# Altium schematic symbol library Schlib.SchLib: 138 symbols (part 2 of 4)
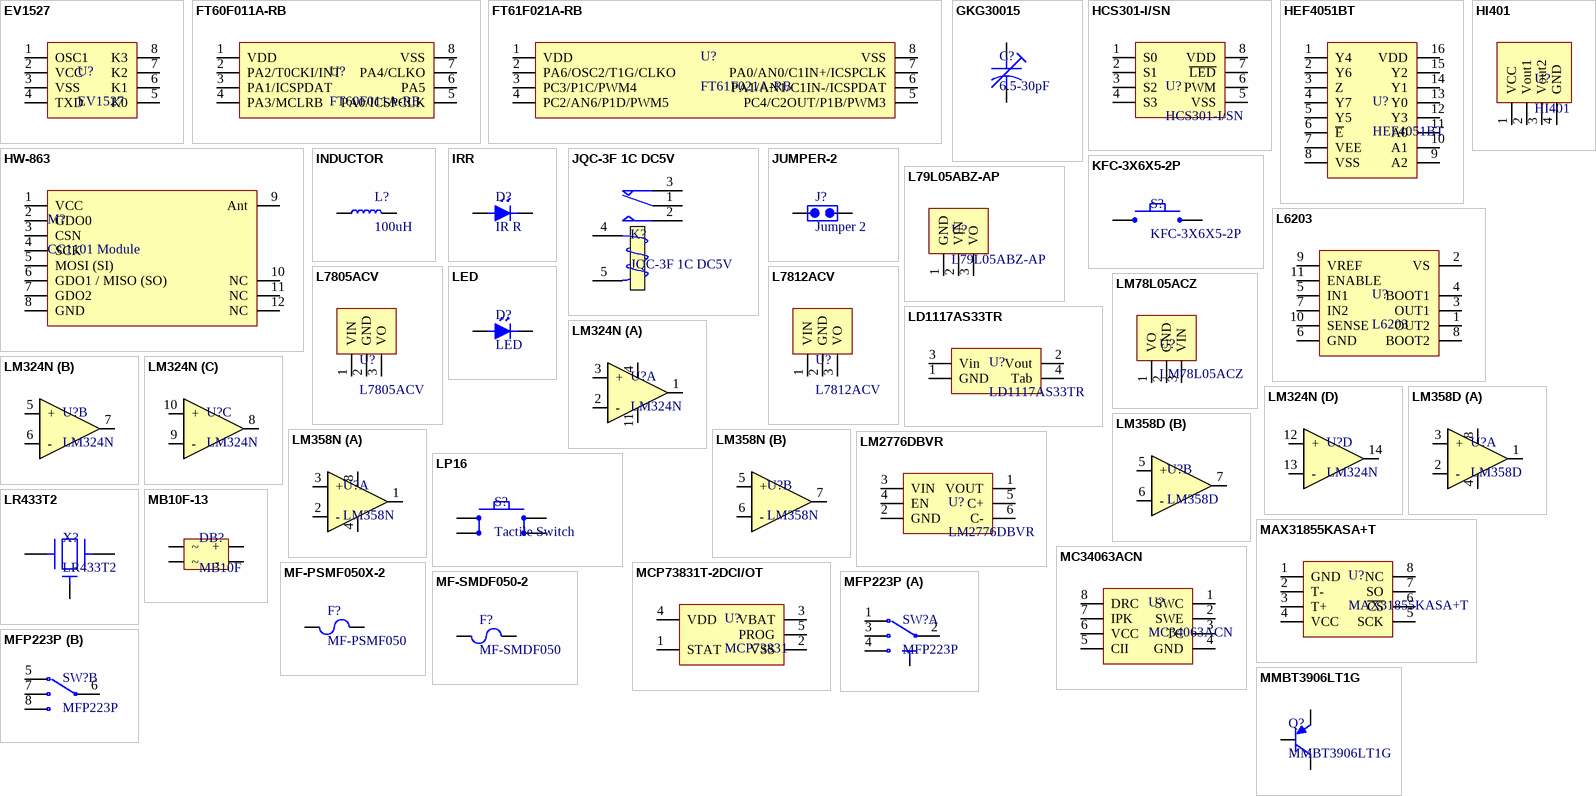
[diagram p4: symbols EV1527 to MMBT3906LT1G]

## INDUCTOR
designator L?, comment 100uH
INDUCTOR
footprint L-0805
footprint L-1206
footprint L-DIP_3x7mm_pin9mm
footprint L-DIP_8X11MM_Pin200Mil
footprint L-DIP_3x7mm_STAND
pins: 1, 2

## IRR
designator D?, comment IR R
IR Receiver
footprint LED-3MM
footprint LED-2835
footprint LED-0805
footprint LED-UV-1W
footprint LED-5MM-BLUE
footprint LED-5MM-RED
pins: A, K

## JQC-3F 1C DC5V
designator K?
Relay Milon 5V 1Contact T73
footprint JQC-3F(T73)
pins: 1 COM, 2 NO, 3 NC, 4 T1, 5 T2

## JUMPER-2
designator J?, comment Jumper 2
2PIN DIP JAMPER 2.56mm
footprint JAMPER-2-DIP_2.56mm
pins: 1, 2

## KFC-3X6X5-2P
designator S?
SMD 3x6x5 mm , Switches , Push Button; ComponentLink1Description: more info; ComponentLink1URL: https://www.javanelec.com/Shops/ProductDetail/1875
footprint KFC-3X6X5-2P-SMD
pins: 1, 2

## L79L05ABZ-AP
designator U?
IC REG LINEAR -5V 100MA TO92-3; Manufacturer: STMicroelectronics; Number of Outputs: 1; Max Input Voltage: -30V; Polarity: Negative; Quiescent Current: 6mA; Output Type: Fixed; Dropout Voltage: 1.7V; Min Input Voltage: -7V; Power Supply Rejection Ratio (PSRR): 49dB; Supplier 1: Digi-Key; Manufacturer Part Number: L79L05ABZ-AP; RoHS: Yes; Category: Voltage Regulators - Linear; Stock 1: 227; Pricing 1: 1=0/44000, 10=0/37600, 25=0/35080, 100=0/28080, 250=0/26072, 500=0/22060, 1000=0/17047 (USD); Mount: Through Hole; Case/Package: TO-92; Number of Pins: 3; Min Operating Temperature: -40°C; Max Operating Temperature: 125°C; Max Output Current: 100mA; Output Voltage: -5V; Packaging: Ammo Pack; Output Current: 100mA; Package Quantity: 1; Number of Regulators: 1; Min Output Voltage: -5V; Series: -; Length: 4.95mm; Width: 3.94mm; Height: 4.95mm; Radiation Hardening: No; Lead Free: Lead Free; RoHS Compliant: Yes; ComponentLink1URL: https://datasheet.ciiva.com/15111/getdatasheetpartid-98563-15111708.pdf?src-supplier=Verical; ComponentLink1Description: https://datasheet.ciiva.com/15111/getdatasheetpartid-98563-15111708.pdf?src-supplier=Verical; ComponentLink2URL: https://datasheet.ciiva.com/4882/cd00000539-4882167.pdf?src-supplier=Mouser; ComponentLink2Description: https://datasheet.ciiva.com/4882/cd00000539-4882167.pdf?src-supplier=Mouser; ComponentLink3URL: https://datasheet.ciiva.com/2041/cd00000539-2041917.pdf?src-supplier=Digi-Key; ComponentLink3Description: https://datasheet.ciiva.com/2041/cd00000539-2041917.pdf?src-supplier=Digi-Key; ComponentLink4URL: https://datasheet.ciiva.com/2041/cd00000539-2041918.pdf?src-supplier=Digi-Key; ComponentLink4Description: https://datasheet.ciiva.com/2041/cd00000539-2041918.pdf?src-supplier=Digi-Key; Supplier Part Number 1: 497-7297-1-ND
footprint TO-92
pins: 1 GND, 2 VIN, 3 VO

## L6203
designator U?
DMOS Full Bridge Motor Driver 36V 11-Pin(11+Tab) MULTIWATT V Tube; Manufacturer: STMicroelectronics; Number of Channels: 2; Output Current: 5A; Output Voltage: 60V; Min Supply Voltage: 12V; Max Supply Voltage: 48V; Output Current per Channel: 4A; On-State Resistance: 300mR; Operating Supply Current: 15mA; Max Collector Current: 10A; Rise Time: 200ns; Release Time: 400ns; Motor Type: Brushed; Turn-Off Delay Time: 300ns; Supplier 1: Digi-Key; Manufacturer Part Number: L6203; RoHS: Yes; Category: Motor Drivers; Pricing 1: 1=9/70000, 10=8/76400, 25=8/35640, 100=7/25590, 250=6/92976, 500=6/72980 (USD); Mount: Through Hole; Number of Pins: 11; Weight: 0.01lb; Min Operating Temperature: -40°C; Max Operating Temperature: 150°C; Packaging: Rail/Tube; Package Quantity: 25; Operating Supply Voltage: 36V; Number of Outputs: 2; Max Output Current: 5A; Collector Emitter Voltage (VCEO): 48V; Turn-On Delay Time: 400ns; Fall Time: 200ns; Length: 19.6mm; Width: 5mm; Height: 10.7mm; Radiation Hardening: No; RoHS Compliant: Yes; Lead Free: Lead Free; REACH SVHC: No SVHC; ComponentLink1URL: https://datasheet.ciiva.com/19456/288104-19456703.pdf?src-supplier=Jameco; ComponentLink1Description: https://datasheet.ciiva.com/19456/288104-19456703.pdf?src-supplier=Jameco; ComponentLink2URL: https://datasheet.ciiva.com/15109/getdatasheetpartid-82875-15109348.pdf?src-supplier=Verical; ComponentLink2Description: https://datasheet.ciiva.com/15109/getdatasheetpartid-82875-15109348.pdf?src-supplier=Verical; ComponentLink3URL: https://datasheet.ciiva.com/26880/l6203-26880161.pdf?src-supplier=IIIC; ComponentLink3Description: https://datasheet.ciiva.com/26880/l6203-26880161.pdf?src-supplier=IIIC; ComponentLink4URL: https://datasheet.ciiva.com/1500/1696819-1500718.pdf?src-supplier=Element14; ComponentLink4Description: https://datasheet.ciiva.com/1500/1696819-1500718.pdf?src-supplier=Element14; ComponentLink5URL: https://datasheet.ciiva.com/14121/l6201-3-eng-tds-14121340.pdf?src-supplier=Distrelec; ComponentLink5Description: https://datasheet.ciiva.com/14121/l6201-3-eng-tds-14121340.pdf?src-supplier=Distrelec; ComponentLink6URL: https://datasheet.ciiva.com/1955/cd00000089-1955614.pdf?src-supplier=Digi-Key; ComponentLink6Description: https://datasheet.ciiva.com/1955/cd00000089-1955614.pdf?src-supplier=Digi-Key; ComponentLink7URL: https://datasheet.ciiva.com/4895/cd00000089-4895903.pdf?src-supplier=Mouser; ComponentLink7Description: https://datasheet.ciiva.com/4895/cd00000089-4895903.pdf?src-supplier=Mouser; ComponentLink8URL: https://datasheet.ciiva.com/1608/1696819-1608167.pdf?src-supplier=Newark; ComponentLink8Description: https://datasheet.ciiva.com/1608/1696819-1608167.pdf?src-supplier=Newark; ComponentLink9URL: https://datasheet.ciiva.com/26347/82-2062e-26347878.pdf?src-supplier=Rapid+Electronics; ComponentLink9Description: https://datasheet.ciiva.com/26347/82-2062e-26347878.pdf?src-supplier=Rapid+Electronics; ComponentLink10URL: https://datasheet.ciiva.com/3228/cd00000089-3228665.pdf?src-supplier=Avnet; ComponentLink10Description: https://datasheet.ciiva.com/3228/cd00000089-3228665.pdf?src-supplier=Avnet; ComponentLink11URL: https://datasheet.ciiva.com/16204/cd00000089-16204895.pdf?src-supplier=Future+Electronics; ComponentLink11Description: https://datasheet.ciiva.com/16204/cd00000089-16204895.pdf?src-supplier=Future+Electronics; Supplier Part Number 1: 497-1421-5-ND
footprint MULTIWATT11
pins: 1 OUT2, 2 VS, 3 OUT1, 4 BOOT1, 5 IN1, 6 GND, 7 IN2, 8 BOOT2, 9 VREF, 10 SENSE, 11 ENABLE

## L7805ACV
designator U?
L7805 Series 1.5 A 5 V Three Terminal Voltage Regulator - TO-220; Manufacturer: STMicroelectronics; Dropout Voltage: 2V; Number of Outputs: 1; Output Current: 1.5A; Max Input Voltage: 35V; Min Input Voltage: 7V; Max Output Current: 1A; Output Voltage: 5V; Polarity: Positive; Quiescent Current: 6mA; Min Output Voltage: 4.9V; Power Supply Rejection Ratio (PSRR): 68dB; Output Type: Fixed; Accuracy: 2%; Tolerance: 4%; Supplier 1: Digi-Key; Manufacturer Part Number: L7805ACV; RoHS: Yes; Category: Voltage Regulators - Linear; Stock 1: 4280; Pricing 1: 1=0/85000, 10=0/74600, 25=0/70120, 100=0/57230, 250=0/53156, 500=0/45240, 1000=0/37345 (USD); Mount: Through Hole; Case/Package: TO; Number of Pins: 3; Weight: 0.01lb; Contact Plating: Tin; Min Operating Temperature: 0°C; Max Operating Temperature: 125°C; Package Quantity: 50; Packaging: Rail/Tube; Number of Regulators: 1; Series: -; Nominal Output Voltage: 5V; Output Voltage Accuracy: 2%; Length: 10.4mm; Width: 4.6mm; Height: 9.15mm; Radiation Hardening: No; Lead Free: Lead Free; RoHS Compliant: Yes; REACH SVHC: No SVHC; ComponentLink1URL: https://datasheet.ciiva.com/15110/getdatasheetpartid-40923-15110968.pdf?src-supplier=Verical; ComponentLink1Description: https://datasheet.ciiva.com/15110/getdatasheetpartid-40923-15110968.pdf?src-supplier=Verical; ComponentLink2URL: https://datasheet.ciiva.com/19480/924570-19480540.pdf?src-supplier=Jameco; ComponentLink2Description: https://datasheet.ciiva.com/19480/924570-19480540.pdf?src-supplier=Jameco; ComponentLink3URL: https://datasheet.ciiva.com/1511/1805459-1511909.pdf?src-supplier=Element14; ComponentLink3Description: https://datasheet.ciiva.com/1511/1805459-1511909.pdf?src-supplier=Element14; ComponentLink4URL: https://datasheet.ciiva.com/2043/cd00000444-2043990.pdf?src-supplier=Digi-Key; ComponentLink4Description: https://datasheet.ciiva.com/2043/cd00000444-2043990.pdf?src-supplier=Digi-Key; ComponentLink5URL: https://datasheet.ciiva.com/14149/tdl78xxab-l78xxac-e-14149771.pdf?src-supplier=Distrelec; ComponentLink5Description: https://datasheet.ciiva.com/14149/tdl78xxab-l78xxac-e-14149771.pdf?src-supplier=Distrelec; ComponentLink6URL: https://datasheet.ciiva.com/16458/cd00000444-16458157.pdf?src-supplier=Future+Electronics; ComponentLink6Description: https://datasheet.ciiva.com/16458/cd00000444-16458157.pdf?src-supplier=Future+Electronics; ComponentLink7URL: https://datasheet.ciiva.com/4881/cd00000444-4881855.pdf?src-supplier=Mouser; ComponentLink7Description: https://datasheet.ciiva.com/4881/cd00000444-4881855.pdf?src-supplier=Mouser; ComponentLink8URL: https://datasheet.ciiva.com/41440/001184958-da-01-en-ic-reg-ldo-5v-1-5a-l7805acv-to-220-3-stm-41440071.pdf?src-supplier=Conrad; ComponentLink8Description: https://datasheet.ciiva.com/41440/001184958-da-01-en-ic-reg-ldo-5v-1-5a-l7805acv-to-220-3-stm-41440071.pdf?src-supplier=Conrad; Supplier Part Number 1: 497-1441-5-ND
footprint TO-220
pins: 1 VIN, 2 GND, 3 VO

## L7812ACV
designator U?
Standard Regulator Pos 12V 1.5A 3-Pin(3+Tab) TO-220AB Tube / IC REG LDO 12V 1.5A TO220AB; Manufacturer: STMicroelectronics; Polarity: Positive; Max Input Voltage: 35V; Min Input Voltage: 14V; Number of Outputs: 1; Dropout Voltage: 2V; Output Type: Fixed; Quiescent Current: 6mA; Power Supply Rejection Ratio (PSRR): 60dB; Accuracy: 2%; Supplier 1: Arrow Electronics; Manufacturer Part Number: L7812ACV; RoHS: Yes; Category: Voltage Regulators - Linear; Stock 1: 77; Pricing 1: 1=0/57740, 10=0/48910, 100=0/39210, 500=0/35690, 1000=0/30500, 2500=0/29220 (USD); Mount: Through Hole; Case/Package: TO; Number of Pins: 3; Contact Plating: Tin,Matte; Weight: 0.01lb; Min Operating Temperature: 0°C; Max Operating Temperature: 125°C; Packaging: Rail/Tube; Package Quantity: 50; Output Voltage: 12V; Output Current: 1.5A; Max Output Current: 1.5A; Nominal Output Voltage: 12V; Number of Regulators: 1; Min Output Voltage: 12V; Series: -; Output Voltage Accuracy: 2%; Tolerance: 2%; Length: 10.4mm; Width: 4.6mm; Height: 15.75mm; Radiation Hardening: No; REACH SVHC: No SVHC; Lead Free: Lead Free; RoHS Compliant: Yes; ComponentLink1URL: https://datasheet.ciiva.com/19480/1389791-19480677.pdf?src-supplier=Jameco; ComponentLink1Description: https://datasheet.ciiva.com/19480/1389791-19480677.pdf?src-supplier=Jameco; ComponentLink2URL: https://datasheet.ciiva.com/14111/tdl78xxab-l78xxac-e-14111398.pdf?src-supplier=Distrelec; ComponentLink2Description: https://datasheet.ciiva.com/14111/tdl78xxab-l78xxac-e-14111398.pdf?src-supplier=Distrelec; ComponentLink3URL: https://datasheet.ciiva.com/26904/l7812acv-26904439.pdf?src-supplier=IIIC; ComponentLink3Description: https://datasheet.ciiva.com/26904/l7812acv-26904439.pdf?src-supplier=IIIC; ComponentLink4URL: https://datasheet.ciiva.com/1511/1805459-1511924.pdf?src-supplier=Element14; ComponentLink4Description: https://datasheet.ciiva.com/1511/1805459-1511924.pdf?src-supplier=Element14; ComponentLink5URL: https://datasheet.ciiva.com/2044/cd00000444-2044294.pdf?src-supplier=Digi-Key; ComponentLink5Description: https://datasheet.ciiva.com/2044/cd00000444-2044294.pdf?src-supplier=Digi-Key; ComponentLink6URL: https://datasheet.ciiva.com/16394/cd00000444-16394694.pdf?src-supplier=Future+Electronics; ComponentLink6Description: https://datasheet.ciiva.com/16394/cd00000444-16394694.pdf?src-supplier=Future+Electronics; ComponentLink7URL: https://datasheet.ciiva.com/16491/cd00000444-16491272.pdf?src-supplier=Avnet+Asia; ComponentLink7Description: https://datasheet.ciiva.com/16491/cd00000444-16491272.pdf?src-supplier=Avnet+Asia; ComponentLink8URL: https://datasheet.ciiva.com/16593/cd00000444-16593004.pdf?src-supplier=Avnet+Europe; ComponentLink8Description: https://datasheet.ciiva.com/16593/cd00000444-16593004.pdf?src-supplier=Avnet+Europe; ComponentLink9URL: https://datasheet.ciiva.com/4882/cd00000444-4882110.pdf?src-supplier=Mouser; ComponentLink9Description: https://datasheet.ciiva.com/4882/cd00000444-4882110.pdf?src-supplier=Mouser; Supplier Part Number 1: L7812ACV
footprint TO-220
pins: 1 VIN, 2 GND, 3 VO

## LD1117AS33TR
designator U?
IC REG LINEAR 3.3V 1A SOT223; Manufacturer: STMicroelectronics; Number of Outputs: 1; Max Input Voltage: 10V; Max Power Dissipation: 12W; Quiescent Current: 10mA; Polarity: Positive; Accuracy: 2%; Output Type: Fixed; Max Output Current: 1.2A; Dropout Voltage: 1.15V; Min Input Voltage: 5.3V; Input Bias Current: 5mA; Supplier 1: Digi-Key; Manufacturer Part Number: LD1117AS33TR; RoHS: Yes; Category: Voltage Regulators - Linear; Stock 1: 4724; Pricing 1: 1=0/98000, 10=0/86000, 25=0/80760, 100=0/65920, 250=0/61228, 500=0/52110, 1000=0/43015 (USD); Mount: Surface Mount; Case/Package: SOT-223; Number of Pins: 4; Weight: 0.01lb; Contact Plating: Tin,Matte; Min Operating Temperature: 0°C; Max Operating Temperature: 125°C; Output Voltage: 3.3V; Packaging: Tape and Reel; Output Current: 1A; Nominal Output Voltage: 3.3V; Package Quantity: 1; Number of Regulators: 1; Power Dissipation: 12W; Min Output Voltage: 3.3V; Output Voltage Accuracy: 2%; Series: -; Length: 6.5mm; Width: 3.5mm; Height: 1.8mm; Radiation Hardening: No; REACH SVHC: No SVHC; Lead Free: Lead Free; RoHS Compliant: Yes; ComponentLink1URL: https://datasheet.ciiva.com/7993/1732936-7993322.pdf?src-supplier=Element14; ComponentLink1Description: https://datasheet.ciiva.com/7993/1732936-7993322.pdf?src-supplier=Element14; ComponentLink2URL: https://datasheet.ciiva.com/7993/1732936-7993323.pdf?src-supplier=Element14; ComponentLink2Description: https://datasheet.ciiva.com/7993/1732936-7993323.pdf?src-supplier=Element14; ComponentLink3URL: https://datasheet.ciiva.com/16375/cd00002116-16375420.pdf?src-supplier=Future+Electronics; ComponentLink3Description: https://datasheet.ciiva.com/16375/cd00002116-16375420.pdf?src-supplier=Future+Electronics; ComponentLink4URL: https://datasheet.ciiva.com/2042/cd00002116-2042573.pdf?src-supplier=Digi-Key; ComponentLink4Description: https://datasheet.ciiva.com/2042/cd00002116-2042573.pdf?src-supplier=Digi-Key; ComponentLink5URL: https://datasheet.ciiva.com/2042/cd00002116-2042574.pdf?src-supplier=Digi-Key; ComponentLink5Description: https://datasheet.ciiva.com/2042/cd00002116-2042574.pdf?src-supplier=Digi-Key; ComponentLink6URL: https://datasheet.ciiva.com/2042/cd00002116-2042575.pdf?src-supplier=Digi-Key; ComponentLink6Description: https://datasheet.ciiva.com/2042/cd00002116-2042575.pdf?src-supplier=Digi-Key; Supplier Part Number 1: 497-1228-1-ND
footprint SOT-223
pins: 1 GND, 2 Vout, 3 Vin, 4 Tab

## LED
designator D?
footprint LED-3MM
footprint LED-2835
footprint LED-0805
footprint LED-UV-1W
footprint LED-5MM-BLUE
footprint LED-5MM-RED
footprint LED-0603
pins: A, K

## LM78L05ACZ
designator U?
LDO Regulator Pos 5V 0.1A 3-Pin TO-92 T/R; Manufacturer: Texas Instruments; Manufacturer Part Number: LM78L05ACZLFT7; Accuracy: 5%; Output Type: Fixed; Max Power Dissipation: 750mW; Number of Outputs: 1; Min Input Voltage: 6.7V; Max Input Voltage: 35V; Max Output Current: 100mA; Polarity: Positive; Quiescent Current: 5mA; Dropout Voltage: 1.6V; Supplier 1: Digi-Key; RoHS: Yes; Category: Voltage Regulators - Linear; Stock 1: 1367; Pricing 1: 1=0/78000, 10=0/68600, 25=0/64400, 100=0/52560, 250=0/48824, 500=0/41552, 1000=0/34300 (USD); Mount: Through Hole; Case/Package: TO-92; Number of Pins: 3; Min Operating Temperature: -40°C; Max Operating Temperature: 125°C; Output Voltage: 5V; Output Voltage Accuracy: 5%; Packaging: Tape and Reel; Output Current: 100mA; Package Quantity: 1800; Power Dissipation: 750mW; Radiation Hardening: No; Lead Free: Lead Free; ComponentLink1URL: http://components.arrow.com/part/dataview/0323_00058832?src-supplier=Arrow+Europe; ComponentLink1Description: http://components.arrow.com/part/dataview/0323_00058832?src-supplier=Arrow+Europe; ComponentLink2URL: http://components.arrow.com/part/dataview/53757952S8266187N1317?src-supplier=Arrow+Electronics; ComponentLink2Description: http://components.arrow.com/part/dataview/53757952S8266187N1317?src-supplier=Arrow+Electronics; ComponentLink3URL: http://www.ti.com/lit/ds/symlink/lm78l62.pdf?src-supplier=Avnet; ComponentLink3Description: http://www.ti.com/lit/ds/symlink/lm78l62.pdf?src-supplier=Avnet; ComponentLink4URL: http://www.ti.com/lit/gpn/lm78l?src-supplier=Mouser; ComponentLink4Description: http://www.ti.com/lit/gpn/lm78l?src-supplier=Mouser; ComponentLink5URL: http://www.ti.com/lit/ds/symlink/lm78l.pdf?src-supplier=Digi-Key; ComponentLink5Description: http://www.ti.com/lit/ds/symlink/lm78l.pdf?src-supplier=Digi-Key; Supplier Part Number 1: 296-LM78L05ACZ/LFT7CT-ND
footprint TO-92
pins: 1 VO, 2 GND, 3 VIN

## LM324N
designator U?
Operational Amplifier, Quad, 1 Mhz, 4, 0.5 V/ S, 1.5V To 16V, Dip, 14 Rohs Compliant: Yes; Manufacturer: Texas Instruments; Supplier 1: Mouser; Manufacturer Part Number: LM324N; RoHS: No; Category: Amplifiers - Op Amps, Buffer, Instrumentation; Stock 1: 50475; Pricing 1: 1=0/4, 10=0/33, 50=0/33, 100=0/26, 1000=0/169, 10000=0/139 (USD); ComponentLink1URL: https://datasheet.ciiva.com/5997/1768103-5997424.pdf?src-supplier=Farnell; ComponentLink1Description: https://datasheet.ciiva.com/5997/1768103-5997424.pdf?src-supplier=Farnell; ComponentLink2URL: https://datasheet.ciiva.com/29304/151880-da-01-en-ic-lm-324-n-tid-29304983.pdf?src-supplier=Conrad; ComponentLink2Description: https://datasheet.ciiva.com/29304/151880-da-01-en-ic-lm-324-n-tid-29304983.pdf?src-supplier=Conrad; ComponentLink3URL: https://datasheet.ciiva.com/1796/lm224-1796723.pdf?src-supplier=Digikey; ComponentLink3Description: https://datasheet.ciiva.com/1796/lm224-1796723.pdf?src-supplier=Digikey; ComponentLink4URL: https://datasheet.ciiva.com/7148/lm224-7148869.pdf?src-supplier=Newark; ComponentLink4Description: https://datasheet.ciiva.com/7148/lm224-7148869.pdf?src-supplier=Newark; ComponentLink5URL: https://datasheet.ciiva.com/8008/1905671-8008853.pdf?src-supplier=Element14; ComponentLink5Description: https://datasheet.ciiva.com/8008/1905671-8008853.pdf?src-supplier=Element14; ComponentLink6URL: https://datasheet.ciiva.com/7709/1840878-7709815.pdf?src-supplier=Element14; ComponentLink6Description: https://datasheet.ciiva.com/7709/1840878-7709815.pdf?src-supplier=Element14; ComponentLink7URL: https://datasheet.ciiva.com/7709/1840878-7709816.pdf?src-supplier=Element14; ComponentLink7Description: https://datasheet.ciiva.com/7709/1840878-7709816.pdf?src-supplier=Element14; Supplier Part Number 1: 595-LM324N
footprint DIP-14
part A pins: 1 O1, 2 -, 3 +, 4 VCC, 11 GND
part B pins: 5 +, 6 -, 7 O2
part C pins: 8 O3, 9 -, 10 +
part D pins: 12 +, 13 -, 14 O4

## LM358D
designator U?
Amplifier;  Dual Operational;  +/- 16 or 32V;  0.7 mA (Typ.) Supply;  +32V;  SO-8;  0; Manufacturer: STMicroelectronics; Gain Bandwidth Product: 1.1MHz; Min Supply Voltage: 3V; Common Mode Rejection Ratio: 70dB; Max Dual Supply Voltage: 15V; Voltage Gain: 100dB; Max Supply Voltage: 30V; Min Dual Supply Voltage: 1.5V; Nominal Supply Current: 1.2mA; Number of Channels: 2; Slew Rate: 0.6V/µs; Input Offset Voltage (Vos): 7mV; Input Bias Current: 150nA; Output Current: 40mA; Operating Supply Current: 700uA; Output Current per Channel: 60mA; Amplifier Type: GENERAL PURPOSE; Dual Supply Voltage: 9V; Max Input Voltage: 28.5V; Min Input Voltage: 0V; Supplier 1: Digi-Key; Manufacturer Part Number: LM358D; RoHS: Yes; Category: Amplifiers - Op Amps, Buffer, Instrumentation; Stock 1: 36148; Pricing 1: 1=2/81000, 10=2/52300, 25=2/38480, 100=2/06700, 250=1/96100, 500=1/75960, 1000=1/75000 (USD); Mount: Surface Mount; Case/Package: SOIC; Number of Pins: 8; Weight: 0.01lb; Min Operating Temperature: 0°C; Max Operating Temperature: 70°C; Packaging: Rail/Tube; Number of Circuits: 2; Operating Supply Voltage: 15V; Package Quantity: 100; Bandwidth: 1.1MHz; Number of Elements: 2; Technology: BIPOLAR; Supply Current: 1.2mA; Unity Gain Bandwidth Product: 1.1MHz; Number of Amplifiers: 2; Series: -; Input Offset Voltage-Max: 7mV; Slew Rate-Nom: 0.6V/µs; Length: 4.9mm; Width: 3.9mm; Height: 1.25mm; Radiation Hardening: No; Lead Free: Lead Free; RoHS Compliant: Yes; REACH SVHC: No SVHC; ComponentLink1URL: https://datasheet.ciiva.com/14151/jhlm258-e-14151238.pdf?src-supplier=Distrelec; ComponentLink1Description: https://datasheet.ciiva.com/14151/jhlm258-e-14151238.pdf?src-supplier=Distrelec; ComponentLink2URL: https://datasheet.ciiva.com/27746/82-0322-27746345.pdf?src-supplier=Rapid+Electronics; ComponentLink2Description: https://datasheet.ciiva.com/27746/82-0322-27746345.pdf?src-supplier=Rapid+Electronics; ComponentLink3URL: https://datasheet.ciiva.com/15129/getdatasheetpartid-50655-15129974.pdf?src-supplier=Verical; ComponentLink3Description: https://datasheet.ciiva.com/15129/getdatasheetpartid-50655-15129974.pdf?src-supplier=Verical; ComponentLink4URL: https://datasheet.ciiva.com/29306/155598-da-01-en-op-verst-lm358d-stm-29306828.pdf?src-supplier=Conrad; ComponentLink4Description: https://datasheet.ciiva.com/29306/155598-da-01-en-op-verst-lm358d-stm-29306828.pdf?src-supplier=Conrad; ComponentLink5URL: https://datasheet.ciiva.com/14544/70013561-14544765.pdf?src-supplier=Allied+Electronics; ComponentLink5Description: https://datasheet.ciiva.com/14544/70013561-14544765.pdf?src-supplier=Allied+Electronics; ComponentLink6URL: https://datasheet.ciiva.com/16456/cd00000464-16456953.pdf?src-supplier=Future+Electronics; ComponentLink6Description: https://datasheet.ciiva.com/16456/cd00000464-16456953.pdf?src-supplier=Future+Electronics; ComponentLink7URL: https://datasheet.ciiva.com/1811/cd00000464-1811312.pdf?src-supplier=Digi-Key; ComponentLink7Description: https://datasheet.ciiva.com/1811/cd00000464-1811312.pdf?src-supplier=Digi-Key; Supplier Part Number 1: 497-18378-ND
footprint SOIC-8
part A pins: 1 O1, 2 -, 3 +, 4 VDD, 8 VCC
part B pins: 5 +, 6 -, 7 O2

## LM358N
designator U?
IC OPAMP GP 1.1MHZ 8DIP; Manufacturer: STMicroelectronics; Operating Supply Voltage: 15V; Voltage Gain: 100dB; Slew Rate: 0.6V/µs; Max Supply Voltage: 30V; Min Supply Voltage: 3V; Common Mode Rejection Ratio: 70dB; Min Dual Supply Voltage: 1.5V; Nominal Supply Current: 1.2mA; Number of Channels: 2; Output Current: 40mA; Dual Supply Voltage: 9V; Max Input Voltage: 28.5V; Min Input Voltage: 0V; Input Bias Current: 150nA; Input Offset Voltage (Vos): 7mV; Operating Supply Current: 700uA; Output Current per Channel: 60mA; Amplifier Type: GENERAL PURPOSE; Supplier 1: Digi-Key; Manufacturer Part Number: LM358N; RoHS: Yes; Category: Amplifiers - Op Amps, Buffer, Instrumentation; Mount: Through Hole; Case/Package: DIP; Number of Pins: 8; Weight: 0.01lb; Min Operating Temperature: 0°C; Max Operating Temperature: 70°C; Package Quantity: 50; Packaging: Rail/Tube; Bandwidth: 1.1MHz; Unity Gain Bandwidth Product: 1.1MHz; Max Dual Supply Voltage: 15V; Number of Circuits: 2; Gain Bandwidth Product: 1.1MHz; Number of Elements: 2; Number of Amplifiers: 2; Series: -; Supply Current: 1.2mA; Technology: BIPOLAR; Input Offset Voltage-Max: 7mV; Slew Rate-Nom: 0.6V/µs; Length: 9.27mm; Width: 6.35mm; Height: 3.3mm; Radiation Hardening: No; REACH SVHC: No SVHC; Lead Free: Lead Free; RoHS Compliant: Yes; ComponentLink1URL: https://datasheet.ciiva.com/15130/getdatasheetpartid-85226-15130372.pdf?src-supplier=Verical; ComponentLink1Description: https://datasheet.ciiva.com/15130/getdatasheetpartid-85226-15130372.pdf?src-supplier=Verical; ComponentLink2URL: https://datasheet.ciiva.com/29306/155600-da-01-en-op-verst-lm358n-stm-29306824.pdf?src-supplier=Conrad; ComponentLink2Description: https://datasheet.ciiva.com/29306/155600-da-01-en-op-verst-lm358n-stm-29306824.pdf?src-supplier=Conrad; ComponentLink3URL: https://datasheet.ciiva.com/29305/174440-da-01-en-ic-lm-358-n-dip8-stm-29305885.pdf?src-supplier=Conrad; ComponentLink3Description: https://datasheet.ciiva.com/29305/174440-da-01-en-ic-lm-358-n-dip8-stm-29305885.pdf?src-supplier=Conrad; ComponentLink4URL: https://datasheet.ciiva.com/14151/jhlm258-e-14151239.pdf?src-supplier=Distrelec; ComponentLink4Description: https://datasheet.ciiva.com/14151/jhlm258-e-14151239.pdf?src-supplier=Distrelec; ComponentLink5URL: https://datasheet.ciiva.com/1796/cd00000464-1796450.pdf?src-supplier=Digi-Key; ComponentLink5Description: https://datasheet.ciiva.com/1796/cd00000464-1796450.pdf?src-supplier=Digi-Key; ComponentLink6URL: https://datasheet.ciiva.com/18404/70013564-18404010.pdf?src-supplier=Allied+Electronics; ComponentLink6Description: https://datasheet.ciiva.com/18404/70013564-18404010.pdf?src-supplier=Allied+Electronics; ComponentLink7URL: https://datasheet.ciiva.com/16351/cd00000464-16351087.pdf?src-supplier=Future+Electronics; ComponentLink7Description: https://datasheet.ciiva.com/16351/cd00000464-16351087.pdf?src-supplier=Future+Electronics; Supplier Part Number 1: 497-1592-5-ND
footprint DIP-8 (DIP, pitch 2.54mm, 300mil Width)
part A pins: 1 O1, 2 -, 3 +, 4 VDD, 8 VCC
part B pins: 5 +, 6 -, 7 O2

## LM2776DBVR
designator U?
Charge Pump INV -2.7V to -5.5V 200mA 6-Pin SOT-23 T/R / IC REG SWTCHD CAP INV 6SOT23; Manufacturer: Texas Instruments; Number of Outputs: 1; Min Input Voltage: 2.7V; Max Input Voltage: 5.5V; Switching Frequency: 2MHz; Synchronous Rectifier: No; Logic Function: Inverting; Quiescent Current: 100uA; Output Type: Fixed; Output Configuration: Negative; Supplier 1: Digi-Key; Manufacturer Part Number: LM2776DBVR; RoHS: Yes; Category: Voltage Regulators - Switching; Pricing 1: 1=1/14000, 10=1/01900, 25=0/96760, 100=0/79480, 250=0/74296, 500=0/65656, 1000=0/57050 (USD); Mount: Surface Mount; Case/Package: SOT-23-6; Number of Pins: 6; Min Operating Temperature: -40°C; Max Operating Temperature: 85°C; Packaging: Tape and Reel; Output Current: 200mA; Output Voltage: -5.5V; Topology: Charge Pump; Lead Free: Lead Free; RoHS Compliant: Yes; ComponentLink1URL: http://www.ti.com/general/docs/lit/getliterature.tsp?genericPartNumber=LM2776&&fileType=pdf&src-supplier=Avnet; ComponentLink1Description: http://www.ti.com/general/docs/lit/getliterature.tsp?genericPartNumber=LM2776&&fileType=pdf&src-supplier=Avnet; ComponentLink2URL: http://www.ti.com/lit/ds/symlink/lm2776.pdf?src-supplier=Farnell; ComponentLink2Description: http://www.ti.com/lit/ds/symlink/lm2776.pdf?src-supplier=Farnell; ComponentLink3URL: http://www.ti.com/lit/ds/symlink/lm2776.pdf?src-supplier=Digi-Key; ComponentLink3Description: http://www.ti.com/lit/ds/symlink/lm2776.pdf?src-supplier=Digi-Key; Supplier Part Number 1: 296-43957-1-ND
footprint SOT-23-6-(lm2776)
pins: 1 VOUT, 2 GND, 3 VIN, 4 EN, 5 C+, 6 C-

## LP16
designator S?, comment Tactile Switch
SMD 4x4x1.5 mm , Switches , Push Button
footprint LP16
pins: 1, 2, 3, 4

## LR433T2
designator X?
SAW Resonator 433.92 MHz , DEQING LADDER ELECTRONICS CO.,LTD
footprint LR433T2
pins: 1, 2, 3

## MAX31855KASA+T
designator U?
MAX31855 Series 3.6V 900 uA 470.6 mW Thermocouple-to-Digital Converter - SOIC-8; Manufacturer: Maxim; Interface: SPI; Operating Supply Current: 900uA; Resolution: 14b; Min Supply Voltage: 3V; Supplier 1: Mouser; Manufacturer Part Number: MAX31855KASA+T; RoHS: Yes; Category: Power Management ICs; Pricing 1: 1=5/93000, 10=5/34000, 25=5/13000, 50=5/13000, 100=5/08000, 250=5/01000, 500=4/89000, 1000=4/83000, 2500=4/72000, 10000=4/72000 (USD); Case/Package: SOIC; Number of Pins: 8; Contact Plating: Tin,Matte; Min Operating Temperature: -40°C; Max Operating Temperature: 125°C; Package Quantity: 2500; Packaging: Tape and Reel; Max Supply Voltage: 3.6V; Output Type: Digital; Series: MAX31855; Radiation Hardening: No; REACH SVHC: Unknown; RoHS Compliant: Yes; ComponentLink1URL: https://datasheet.ciiva.com/2003/max31855-2003462.pdf?src-supplier=Digi-Key; ComponentLink1Description: https://datasheet.ciiva.com/2003/max31855-2003462.pdf?src-supplier=Digi-Key; ComponentLink2URL: https://datasheet.ciiva.com/2003/max31855-2003463.pdf?src-supplier=Digi-Key; ComponentLink2Description: https://datasheet.ciiva.com/2003/max31855-2003463.pdf?src-supplier=Digi-Key; ComponentLink3URL: https://datasheet.ciiva.com/2003/max31855-2003464.pdf?src-supplier=Digi-Key; ComponentLink3Description: https://datasheet.ciiva.com/2003/max31855-2003464.pdf?src-supplier=Digi-Key; ComponentLink4URL: https://datasheet.ciiva.com/16635/max31855-16635416.pdf?src-supplier=Avnet+Europe; ComponentLink4Description: https://datasheet.ciiva.com/16635/max31855-16635416.pdf?src-supplier=Avnet+Europe; Supplier Part Number 1: 700-MAX31855KASA+T
footprint SOIC-8
pins: 1 GND, 2 T-, 3 T+, 4 VCC, 5 SCK, 6 ~{CS}, 7 SO, 8 NC

## MB10F-13
designator DB?, comment MB10F
BRIDGE RECT 1PHASE 1KV 800MA MBF; Manufacturer: Diodes; Manufacturer Part Number: MB10F-13; Supplier 1: Digi-Key; RoHS: Yes; Category: Diodes; Stock 1: 17990; Pricing 1: 1=0/43000, 10=0/35200, 100=0/23940, 500=0/17952, 1000=0/13464, 2000=0/12342 (USD); Mount: Surface Mount; Case/Package: SMD/SMT; Min Operating Temperature: -55°C; Max Operating Temperature: 150°C; Packaging: Tape and Reel; Average Rectified Current: 800mA; RoHS Compliant: Yes; ComponentLink1URL: https://www.diodes.com/assets/Datasheets/MB10F.pdf?src-supplier=Digi-Key; ComponentLink1Description: https://www.diodes.com/assets/Datasheets/MB10F.pdf?src-supplier=Digi-Key; Supplier Part Number 1: MB10F-13DICT-ND
footprint MB10F
pins: 1 +, 2 ~, 3 -, 4 ~

## MC34063ACN
designator U?
STMICROELECTRONICS - MC34063ACN - DC/DC CONVERTER, DIP-8; Number of Outputs: 1; Output Voltage: 1.25V; Efficiency: 89%; Min Input Voltage: 3V; Output Current: 1.5A; Max Input Voltage: 40V; Switching Frequency: 100kHz; Synchronous Rectifier: No; Output Type: Adjustable,Fixed; Supplier 1: Digi-Key; Manufacturer: STMicroelectronics; Manufacturer Part Number: MC34063ACN; RoHS: Yes; Category: Voltage Regulators - Switching; Stock 1: 3763; Pricing 1: 1=0.88000, 10=0.78400, 25=0.74440, 100=0.61150, 250=0.57156, 500=0.50512, 1000=0.43890 (USD); Mount: Through Hole; Case/Package: DIP; Number of Pins: 8; Weight: 0.01lb; Min Operating Temperature: 0°C; Max Operating Temperature: 70°C; Packaging: Rail/Tube; Package Quantity: 50; Max Output Current: 1.5A; Min Output Voltage: 1.25V; Max Output Voltage: 40V; Series: -; Switching Frequency-Max: 100kHz; Length: 9.8mm; Width: 7.1mm; Height: 3.3mm; Radiation Hardening: No; REACH SVHC: No SVHC; Lead Free: Lead Free; RoHS Compliant: Yes; ComponentLink1URL: https://datasheet.ciiva.com/27055/1997156-27055963.pdf?src-supplier=Jameco; ComponentLink1Description: https://datasheet.ciiva.com/27055/1997156-27055963.pdf?src-supplier=Jameco; ComponentLink2URL: https://datasheet.ciiva.com/15112/getdatasheetpartid-66011-15112681.pdf?src-supplier=Verical; ComponentLink2Description: https://datasheet.ciiva.com/15112/getdatasheetpartid-66011-15112681.pdf?src-supplier=Verical; ComponentLink3URL: https://datasheet.ciiva.com/17098/mc34063acn-17098929.pdf?src-supplier=Allied+Electronics; ComponentLink3Description: https://datasheet.ciiva.com/17098/mc34063acn-17098929.pdf?src-supplier=Allied+Electronics; ComponentLink4URL: https://datasheet.ciiva.com/26899/mc34063acn-26899988.pdf?src-supplier=IIIC; ComponentLink4Description: https://datasheet.ciiva.com/26899/mc34063acn-26899988.pdf?src-supplier=IIIC; ComponentLink5URL: https://datasheet.ciiva.com/7994/1723944-7994094.pdf?src-supplier=Element14; ComponentLink5Description: https://datasheet.ciiva.com/7994/1723944-7994094.pdf?src-supplier=Element14; ComponentLink6URL: https://datasheet.ciiva.com/2025/cd00001232-2025287.pdf?src-supplier=Digi-Key; ComponentLink6Description: https://datasheet.ciiva.com/2025/cd00001232-2025287.pdf?src-supplier=Digi-Key; ComponentLink7URL: https://datasheet.ciiva.com/4905/cd00001232-4905035.pdf?src-supplier=Mouser; ComponentLink7Description: https://datasheet.ciiva.com/4905/cd00001232-4905035.pdf?src-supplier=Mouser; ComponentLink8URL: https://datasheet.ciiva.com/16393/cd00001232-16393452.pdf?src-supplier=Future+Electronics; ComponentLink8Description: https://datasheet.ciiva.com/16393/cd00001232-16393452.pdf?src-supplier=Future+Electronics; ComponentLink9URL: https://datasheet.ciiva.com/17297/cd00001232-17297231.pdf?src-supplier=Avnet+Europe; ComponentLink9Description: https://datasheet.ciiva.com/17297/cd00001232-17297231.pdf?src-supplier=Avnet+Europe; Supplier Part Number 1: 497-7413-5-ND
footprint DIP-8 (DIP, pitch 2.54mm, 300mil Width)
pins: 1 SWC, 2 SWE, 3 TC, 4 GND, 5 CII, 6 VCC, 7 IPK, 8 DRC

## MCP73831T-2DCI/OT
designator U?, comment MCP73831
MICROCHIP - MCP73831T-2DCI/OT - IC zum Laden von 1-zelligen Li-Ionen- & Li-Polymer-Akkus, 6V Eingang, 4.2V/500mA, SOT-23-5; Output Voltage: 4.2V; Output Current: 500mA; Number of Cells: 1; Min Supply Voltage: 3.75V; Operating Supply Current: 510uA; Max Output Voltage: 4.232V; Min Output Voltage: 4.168V; Supplier 1: Digi-Key; Manufacturer: Microchip; Manufacturer Part Number: MCP73831T-2DCI/OT; RoHS: Yes; Category: Battery Management; Stock 1: 3700; Pricing 1: 1=0/59000, 25=0/49400 (USD); Mount: Surface Mount; Case/Package: SOT-23; Number of Pins: 5; Contact Plating: Tin,Matte; Min Operating Temperature: -40°C; Max Operating Temperature: 85°C; Max Output Current: 500mA; Max Supply Voltage: 6V; Packaging: Tape and Reel; Package Quantity: 3000; Max Input Voltage: 3.75V; Number of Channels: 1; Max Charge Current: 500mA; Series: MCP73831; Length: 3.1mm; Width: 1.8mm; Height: 1.3mm; Radiation Hardening: No; REACH SVHC: No SVHC; Lead Free: Lead Free; RoHS Compliant: Yes; ComponentLink1URL: https://datasheet.ciiva.com/1496/1784520-1496880.pdf?src-supplier=Farnell; ComponentLink1Description: https://datasheet.ciiva.com/1496/1784520-1496880.pdf?src-supplier=Farnell; ComponentLink2URL: https://datasheet.ciiva.com/3213/21984e-3213406.pdf?src-supplier=Avnet; ComponentLink2Description: https://datasheet.ciiva.com/3213/21984e-3213406.pdf?src-supplier=Avnet; ComponentLink3URL: https://datasheet.ciiva.com/1931/21984e-1931965.pdf?src-supplier=Digi-Key; ComponentLink3Description: https://datasheet.ciiva.com/1931/21984e-1931965.pdf?src-supplier=Digi-Key; ComponentLink4URL: https://datasheet.ciiva.com/1931/21984e-1931966.pdf?src-supplier=Digi-Key; ComponentLink4Description: https://datasheet.ciiva.com/1931/21984e-1931966.pdf?src-supplier=Digi-Key; ComponentLink5URL: https://datasheet.ciiva.com/1931/21984e-1931967.pdf?src-supplier=Digi-Key; ComponentLink5Description: https://datasheet.ciiva.com/1931/21984e-1931967.pdf?src-supplier=Digi-Key; ComponentLink6URL: https://datasheet.ciiva.com/12230/21984e-53484-12230924.pdf?src-supplier=Mouser; ComponentLink6Description: https://datasheet.ciiva.com/12230/21984e-53484-12230924.pdf?src-supplier=Mouser; ComponentLink7URL: https://datasheet.ciiva.com/17299/21984e-17299308.pdf?src-supplier=Avnet+Europe; ComponentLink7Description: https://datasheet.ciiva.com/17299/21984e-17299308.pdf?src-supplier=Avnet+Europe; ComponentLink8URL: https://datasheet.ciiva.com/1137/1784520-1137805.pdf?src-supplier=Element14; ComponentLink8Description: https://datasheet.ciiva.com/1137/1784520-1137805.pdf?src-supplier=Element14; ComponentLink9URL: https://datasheet.ciiva.com/15115/getdatasheetpartid-571429-15115381.pdf?src-supplier=Verical; ComponentLink9Description: https://datasheet.ciiva.com/15115/getdatasheetpartid-571429-15115381.pdf?src-supplier=Verical; ComponentLink10URL: https://datasheet.ciiva.com/16217/filehandler-aspxddocname-en025112-16217054.pdf?src-supplier=Future+Electronics; ComponentLink10Description: https://datasheet.ciiva.com/16217/filehandler-aspxddocname-en025112-16217054.pdf?src-supplier=Future+Electronics; ComponentLink11URL: https://datasheet.ciiva.com/1490/1784520-1490198.pdf?src-supplier=Element14; ComponentLink11Description: https://datasheet.ciiva.com/1490/1784520-1490198.pdf?src-supplier=Element14; Supplier Part Number 1: MCP73831T-2DCI/OTCT-ND
footprint SOT-23-5-(SC-74A)
pins: 1 STAT, 2 VSS, 3 VBAT, 4 VDD, 5 PROG

## MF-PSMF050X-2
designator F?, comment MF-PSMF050
BOURNS   MF-PSMF050X-2   FUSE, RESETTABLE PTC, 6V, 500MA, 0805; Number of Terminals/Pins: 2; Max Current Rating: 40A; Power Dissipation: 500mW; Trip Current: 1A; Resistance: 900mR; Time to Trip: 0.1s; Approvals: UL; Supplier 1: Digi-Key; Manufacturer: Bourns; Manufacturer Part Number: MF-PSMF050X-2; RoHS: Yes; Category: PTC Resettable Fuses; Stock 1: 9973; Pricing 1: 1=0/80000, 5=0/78000, 10=0/75600, 50=0/63600, 100=0/52800, 250=0/48000, 500=0/40800, 1000=0/36000 (USD); Mount: Surface Mount,PCB; Case/Package: 0805; Number of Pins: 2; Case Code (Metric): 2012; Case Code (Imperial): 0805; Terminal Material: Gold; Min Operating Temperature: -40°C; Max Operating Temperature: 85°C; Hold Current: 500mA; Packaging: Tape and Reel; Operating Supply Voltage: 6V; Voltage Rating: 6V; Package Quantity: 3000; Current Rating: 40A; Termination: SMD/SMT; Max Power Dissipation: 500mW; Voltage Rating (DC): 6V; Series: MF-PSMF; Length: 2.3mm; Width: 1.5mm; Height: 0.85mm; Radiation Hardening: No; REACH SVHC: No SVHC; RoHS Compliant: Yes; ComponentLink1URL: https://datasheet.ciiva.com/3019/mfpsmf-3019798.pdf?src-supplier=Avnet; ComponentLink1Description: https://datasheet.ciiva.com/3019/mfpsmf-3019798.pdf?src-supplier=Avnet; ComponentLink2URL: https://datasheet.ciiva.com/3019/mfpsmf-3019799.pdf?src-supplier=Avnet; ComponentLink2Description: https://datasheet.ciiva.com/3019/mfpsmf-3019799.pdf?src-supplier=Avnet; ComponentLink3URL: https://datasheet.ciiva.com/22657/1442129-22657847.pdf?src-supplier=Element14; ComponentLink3Description: https://datasheet.ciiva.com/22657/1442129-22657847.pdf?src-supplier=Element14; ComponentLink4URL: https://datasheet.ciiva.com/26946/getdatasheetpartid-137409-26946007.pdf?src-supplier=Verical; ComponentLink4Description: https://datasheet.ciiva.com/26946/getdatasheetpartid-137409-26946007.pdf?src-supplier=Verical; ComponentLink5URL: https://datasheet.ciiva.com/326/mfpsmf-326488.pdf?src-supplier=Digi-Key; ComponentLink5Description: https://datasheet.ciiva.com/326/mfpsmf-326488.pdf?src-supplier=Digi-Key; ComponentLink6URL: https://datasheet.ciiva.com/326/mfpsmf-326489.pdf?src-supplier=Digi-Key; ComponentLink6Description: https://datasheet.ciiva.com/326/mfpsmf-326489.pdf?src-supplier=Digi-Key; ComponentLink7URL: https://datasheet.ciiva.com/326/mfpsmf-326490.pdf?src-supplier=Digi-Key; ComponentLink7Description: https://datasheet.ciiva.com/326/mfpsmf-326490.pdf?src-supplier=Digi-Key; ComponentLink8URL: https://datasheet.ciiva.com/4501/mfpsmf-69505-4501179.pdf?src-supplier=Mouser; ComponentLink8Description: https://datasheet.ciiva.com/4501/mfpsmf-69505-4501179.pdf?src-supplier=Mouser; ComponentLink9URL: https://datasheet.ciiva.com/32430/mf-psmf-series-eng-tds-32430651.pdf?src-supplier=Distrelec; ComponentLink9Description: https://datasheet.ciiva.com/32430/mf-psmf-series-eng-tds-32430651.pdf?src-supplier=Distrelec; ComponentLink10URL: https://datasheet.ciiva.com/1274/1442129-1274589.pdf?src-supplier=Element14; ComponentLink10Description: https://datasheet.ciiva.com/1274/1442129-1274589.pdf?src-supplier=Element14; ComponentLink11URL: https://datasheet.ciiva.com/17401/mfpsmf-17401741.pdf?src-supplier=Avnet+Europe; ComponentLink11Description: https://datasheet.ciiva.com/17401/mfpsmf-17401741.pdf?src-supplier=Avnet+Europe; ComponentLink12URL: https://datasheet.ciiva.com/22712/1442129-22712191.pdf?src-supplier=Element14; ComponentLink12Description: https://datasheet.ciiva.com/22712/1442129-22712191.pdf?src-supplier=Element14; Supplier Part Number 1: MF-PSMF050X-2CT-ND
footprint MF-PSMF
pins: 1, 2

## MF-SMDF050-2
designator F?, comment MF-SMDF050
PTC Resettable Fuse 10A 60V T/R; Manufacturer: Bourns; Manufacturer Part Number: MF-SMDF050-2; Number of Terminals/Pins: 2; Resistance: 1R; Power Dissipation: 900mW; Hold Current: 550mA; Trip Current: 1.2A; Time to Trip: 3s; Approvals: UL,CSA,TUV; Supplier 1: Digi-Key; RoHS: Yes; Category: PTC Resettable Fuses; Stock 1: 148573; Pricing 1: 1=0/42000, 5=0/40600, 10=0/39400, 50=0/33120, 100=0/27500, 250=0/25000, 500=0/21250, 1000=0/18750 (USD); Mount: Surface Mount,PCB; Case/Package: 2018; Number of Pins: 2; Case Code (Metric): 5045; Case Code (Imperial): 2018; Contact Plating: Gold; Terminal Material: Gold; Min Operating Temperature: -40°C; Max Operating Temperature: 85°C; Current Rating: 10A; Max Current Rating: 10A; Package Quantity: 6000; Packaging: Tape and Reel; Voltage Rating: 60V; Operating Supply Voltage: 60V; Termination: SMD/SMT; Voltage Rating (DC): 60V; Series: MF-SMDF; Length: 5.44mm; Width: 4.93mm; Height: 1.09mm; Radiation Hardening: No; REACH SVHC: Unknown; Lead Free: Lead Free; RoHS Compliant: Yes; ComponentLink1URL: https://datasheet.ciiva.com/4501/mfsmdf2-17667-4501664.pdf?src-supplier=Mouser; ComponentLink1Description: https://datasheet.ciiva.com/4501/mfsmdf2-17667-4501664.pdf?src-supplier=Mouser; ComponentLink2URL: https://datasheet.ciiva.com/22712/20066-22712223.pdf?src-supplier=Element14; ComponentLink2Description: https://datasheet.ciiva.com/22712/20066-22712223.pdf?src-supplier=Element14; ComponentLink3URL: https://datasheet.ciiva.com/34302/1164947-34302047.pdf?src-supplier=Jameco; ComponentLink3Description: https://datasheet.ciiva.com/34302/1164947-34302047.pdf?src-supplier=Jameco; ComponentLink4URL: https://datasheet.ciiva.com/3019/mfsmdf2-3019682.pdf?src-supplier=Avnet; ComponentLink4Description: https://datasheet.ciiva.com/3019/mfsmdf2-3019682.pdf?src-supplier=Avnet; ComponentLink5URL: https://datasheet.ciiva.com/8005/mfsmdf2-8005463.pdf?src-supplier=Element14; ComponentLink5Description: https://datasheet.ciiva.com/8005/mfsmdf2-8005463.pdf?src-supplier=Element14; ComponentLink6URL: https://datasheet.ciiva.com/17401/mfsmdf2-17401609.pdf?src-supplier=Avnet+Europe; ComponentLink6Description: https://datasheet.ciiva.com/17401/mfsmdf2-17401609.pdf?src-supplier=Avnet+Europe; ComponentLink7URL: https://datasheet.ciiva.com/5758/mfsmdf2-5758699.pdf?src-supplier=Farnell; ComponentLink7Description: https://datasheet.ciiva.com/5758/mfsmdf2-5758699.pdf?src-supplier=Farnell; ComponentLink8URL: https://datasheet.ciiva.com/30100/mfsmdf2-30100267.pdf?src-supplier=Onlinecomponents.com; ComponentLink8Description: https://datasheet.ciiva.com/30100/mfsmdf2-30100267.pdf?src-supplier=Onlinecomponents.com; ComponentLink9URL: https://datasheet.ciiva.com/14537/70153682-14537740.pdf?src-supplier=Allied+Electronics; ComponentLink9Description: https://datasheet.ciiva.com/14537/70153682-14537740.pdf?src-supplier=Allied+Electronics; ComponentLink10URL: https://datasheet.ciiva.com/326/mfsmdf2-326509.pdf?src-supplier=Digi-Key; ComponentLink10Description: https://datasheet.ciiva.com/326/mfsmdf2-326509.pdf?src-supplier=Digi-Key; ComponentLink11URL: https://datasheet.ciiva.com/326/mfsmdf2-326510.pdf?src-supplier=Digi-Key; ComponentLink11Description: https://datasheet.ciiva.com/326/mfsmdf2-326510.pdf?src-supplier=Digi-Key; ComponentLink12URL: https://datasheet.ciiva.com/326/mfsmdf2-326511.pdf?src-supplier=Digi-Key; ComponentLink12Description: https://datasheet.ciiva.com/326/mfsmdf2-326511.pdf?src-supplier=Digi-Key; Supplier Part Number 1: MF-SMDF050-2CT-ND
footprint MF-SMDF
pins: 1, 2

## MFP223P
designator SW?
Switch Slide ON ON ON Extended Top Slide 0.35A 30VDC 10000Cycle PC Pins Bracket Mount/Through Hole; Manufacturer: Knitter-Switch; Mechanical Life: 10000Cycles; Actuator Material: Polyoxymethylene; Max Voltage Rating (DC): 30V; Max Current Rating: 200mA; Supplier 1: Arrow Europe; Manufacturer Part Number: MFP223P; RoHS: Yes; Category: Uncategorized; Mount: Through Hole,Brackets; Contact Material: Copper Alloy; Contact Plating: Nickel,Silver; Housing Material: Resin; Min Operating Temperature: -20°C; Max Operating Temperature: 85°C; Termination: PC Pins; Length: 16mm; Depth: 6.5mm; Radiation Hardening: No; Lead Free: Lead Free; RoHS Compliant: Yes; ComponentLink1URL: https://datasheet.ciiva.com/26847/getdatasheetpartid-740636-26847254.pdf?src-supplier=Verical; ComponentLink1Description: https://datasheet.ciiva.com/26847/getdatasheetpartid-740636-26847254.pdf?src-supplier=Verical; Supplier Part Number 1: MFP223P
footprint MFP223P
part A pins: 0, 1, 2, 3, 4
part B pins: 5, 6, 7, 8 5